# Altium schematic symbol library Memory.SchLib: 2 symbols
Pins are listed as number, name and electrical type; pins without a type are passive.

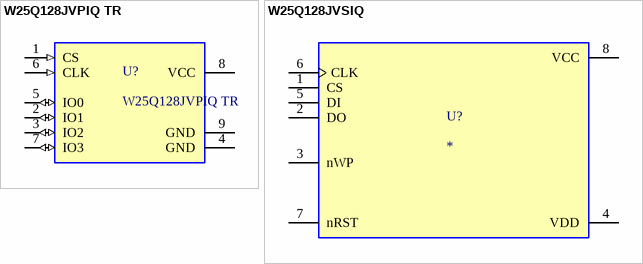
[diagram p0: symbols W25Q128JVPIQ TR to W25Q128JVSIQ]

## W25Q128JVPIQ TR
designator U?
No Description Available; Manufacturer_Name: Winbond; Copyright: Copyright (C) 2025 Ultra Librarian. All rights reserved.; Manufacturer_Part_Number: W25Q128JVPIQ TR; RefDes: RefDes; Type: Type
footprint WSON-8_6X5_WIN
pins: 1 CS (in), 2 IO1 (io), 3 IO2 (io), 4 GND (power), 5 IO0 (io), 6 CLK (in), 7 IO3 (io), 8 VCC (power), 9 GND (power)

## W25Q128JVSIQ
designator U?
FLASH - NOR Memory IC 128Mb (16M x 8) SPI - Quad I/O, QPI, DTR 133 MHz 8-SOIC; MF: Winbond Electronics; MP: W25Q128JVSIQ; SnapEDA_Link: https://www.snapeda.com/parts/W25Q128JVSIQ/Winbond/view-part/?ref=snap; Package: SOIC-8 Winbond Electronics; Value: *; Check_prices: https://www.snapeda.com/parts/W25Q128JVSIQ/Winbond/view-part/?ref=eda
footprint SOIC127P790X216-8N
pins: 1 CS, 2 DO, 3 nWP, 4 VDD (power), 5 DI, 6 CLK, 7 nRST, 8 VCC (power)